# Altium schematic symbol library 10M16SAU324.SchLib: 1 symbol
Pins are listed as number, name and electrical type; pins without a type are passive.

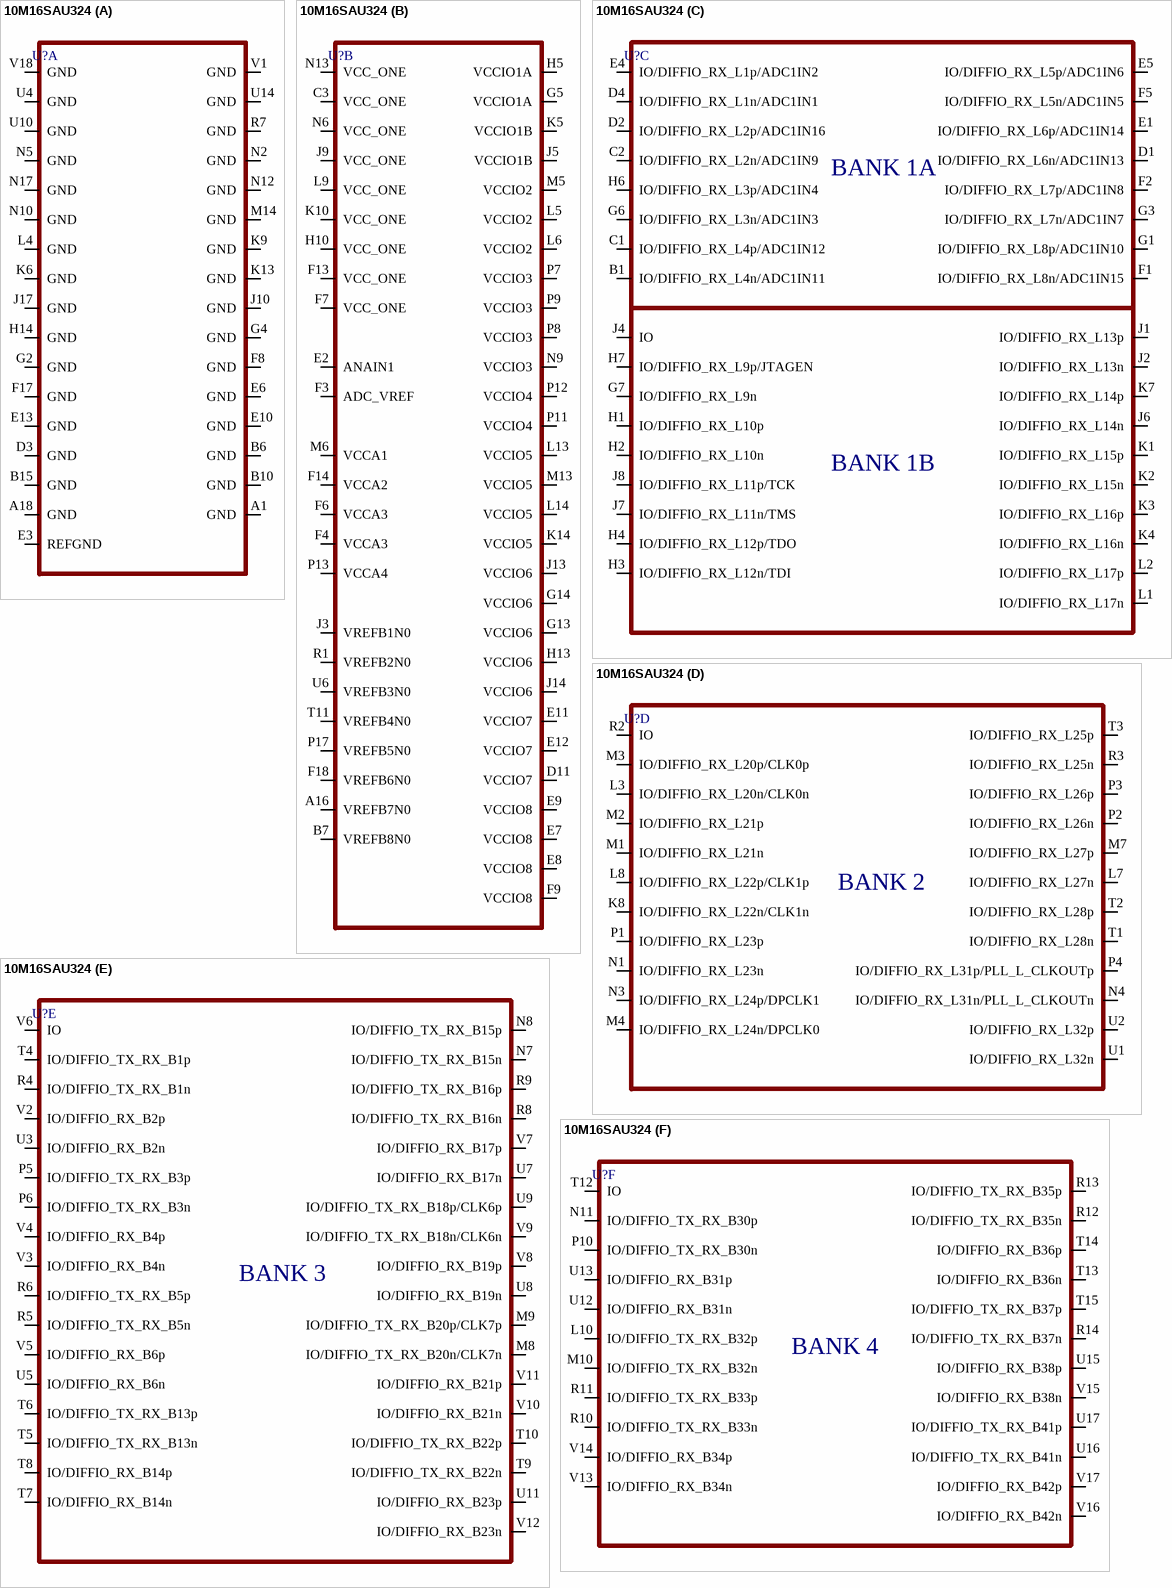
[diagram p0: symbol 10M16SAU324]

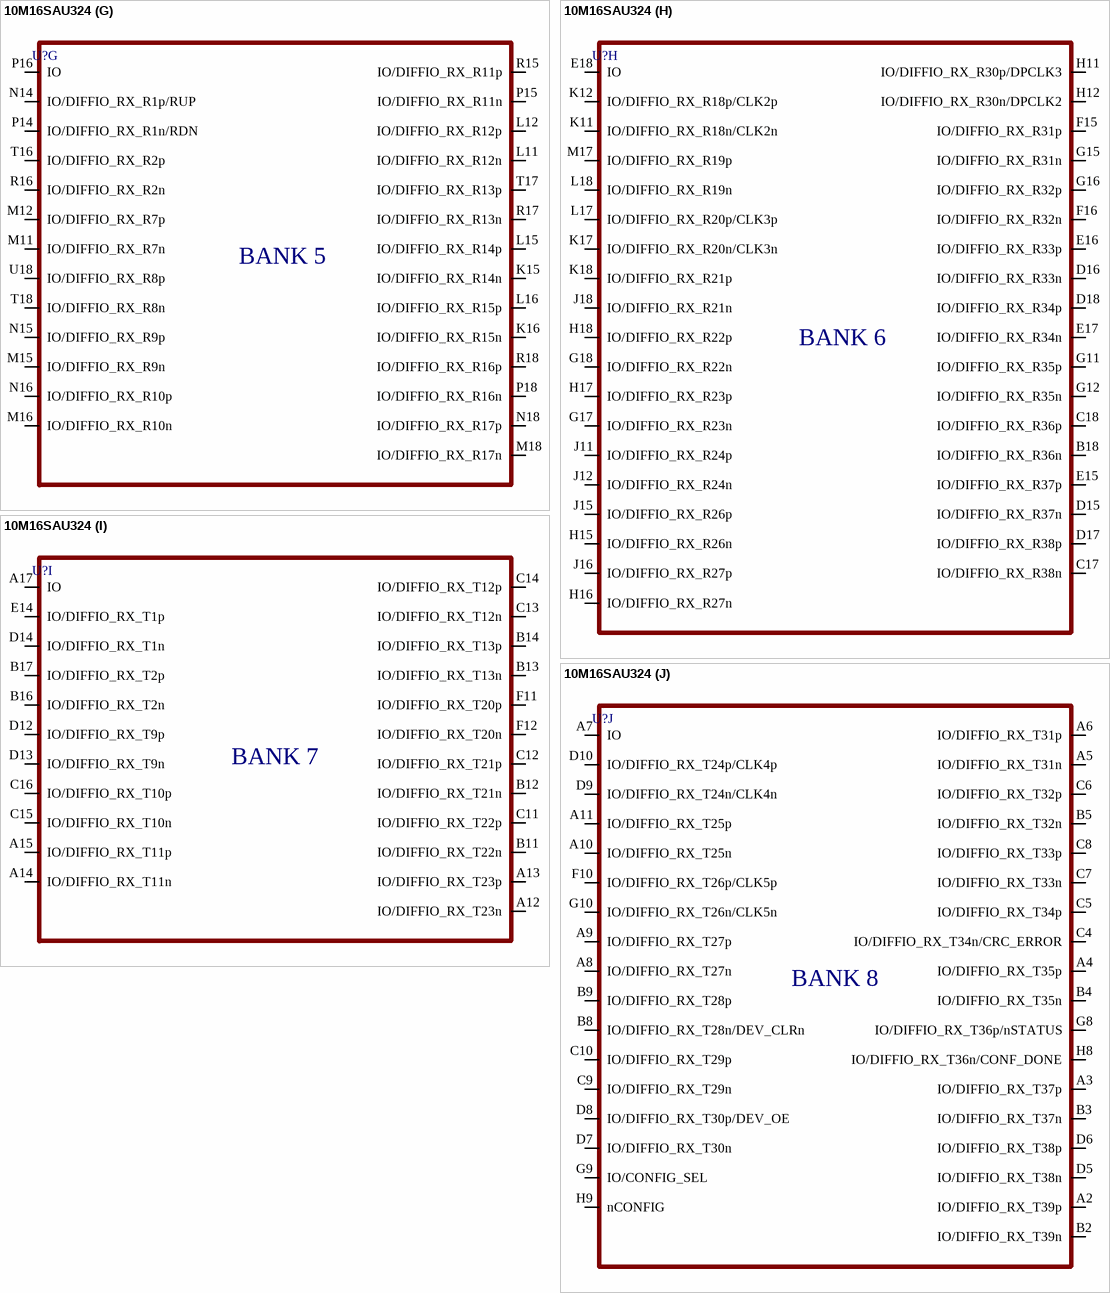
[diagram p1: symbol 10M16SAU324]

## 10M16SAU324
designator U?
part A pins: A1 GND, A18 GND, B6 GND, B10 GND, B15 GND, D3 GND, E3 REFGND, E6 GND, E10 GND, E13 GND, F8 GND, F17 GND, G2 GND, G4 GND, H14 GND, J10 GND, J17 GND, K6 GND, K9 GND, K13 GND, L4 GND, M14 GND, N2 GND, N5 GND, N10 GND, N12 GND, N17 GND, R7 GND, U4 GND, U10 GND, U14 GND, V1 GND, V18 GND
part B pins: A16 VREFB7N0, B7 VREFB8N0, C3 VCC_ONE, D11 VCCIO7, E2 ANAIN1, E7 VCCIO8, E8 VCCIO8, E9 VCCIO8, E11 VCCIO7, E12 VCCIO7, F3 ADC_VREF, F4 VCCA3, F6 VCCA3, F7 VCC_ONE, F9 VCCIO8, F13 VCC_ONE, F14 VCCA2, F18 VREFB6N0, G5 VCCIO1A, G13 VCCIO6, G14 VCCIO6, H5 VCCIO1A, H10 VCC_ONE, H13 VCCIO6, J3 VREFB1N0, J5 VCCIO1B, J9 VCC_ONE, J13 VCCIO6, J14 VCCIO6, K5 VCCIO1B, K10 VCC_ONE, K14 VCCIO5, L5 VCCIO2, L6 VCCIO2, L9 VCC_ONE, L13 VCCIO5, L14 VCCIO5, M5 VCCIO2, M6 VCCA1, M13 VCCIO5, N6 VCC_ONE, N9 VCCIO3, N13 VCC_ONE, P7 VCCIO3, P8 VCCIO3, P9 VCCIO3, P11 VCCIO4, P12 VCCIO4, P13 VCCA4, P17 VREFB5N0, R1 VREFB2N0, T11 VREFB4N0, U6 VREFB3N0
part C pins: B1 IO/DIFFIO_RX_L4n/ADC1IN11, C1 IO/DIFFIO_RX_L4p/ADC1IN12, C2 IO/DIFFIO_RX_L2n/ADC1IN9, D1 IO/DIFFIO_RX_L6n/ADC1IN13, D2 IO/DIFFIO_RX_L2p/ADC1IN16, D4 IO/DIFFIO_RX_L1n/ADC1IN1, E1 IO/DIFFIO_RX_L6p/ADC1IN14, E4 IO/DIFFIO_RX_L1p/ADC1IN2, E5 IO/DIFFIO_RX_L5p/ADC1IN6, F1 IO/DIFFIO_RX_L8n/ADC1IN15, F2 IO/DIFFIO_RX_L7p/ADC1IN8, F5 IO/DIFFIO_RX_L5n/ADC1IN5, G1 IO/DIFFIO_RX_L8p/ADC1IN10, G3 IO/DIFFIO_RX_L7n/ADC1IN7, G6 IO/DIFFIO_RX_L3n/ADC1IN3, G7 IO/DIFFIO_RX_L9n, H1 IO/DIFFIO_RX_L10p, H2 IO/DIFFIO_RX_L10n, H3 IO/DIFFIO_RX_L12n/TDI, H4 IO/DIFFIO_RX_L12p/TDO, H6 IO/DIFFIO_RX_L3p/ADC1IN4, H7 IO/DIFFIO_RX_L9p/JTAGEN, J1 IO/DIFFIO_RX_L13p, J2 IO/DIFFIO_RX_L13n, J4 IO, J6 IO/DIFFIO_RX_L14n, J7 IO/DIFFIO_RX_L11n/TMS, J8 IO/DIFFIO_RX_L11p/TCK, K1 IO/DIFFIO_RX_L15p, K2 IO/DIFFIO_RX_L15n, K3 IO/DIFFIO_RX_L16p, K4 IO/DIFFIO_RX_L16n, K7 IO/DIFFIO_RX_L14p, L1 IO/DIFFIO_RX_L17n, L2 IO/DIFFIO_RX_L17p
part D pins: K8 IO/DIFFIO_RX_L22n/CLK1n, L3 IO/DIFFIO_RX_L20n/CLK0n, L7 IO/DIFFIO_RX_L27n, L8 IO/DIFFIO_RX_L22p/CLK1p, M1 IO/DIFFIO_RX_L21n, M2 IO/DIFFIO_RX_L21p, M3 IO/DIFFIO_RX_L20p/CLK0p, M4 IO/DIFFIO_RX_L24n/DPCLK0, M7 IO/DIFFIO_RX_L27p, N1 IO/DIFFIO_RX_L23n, N3 IO/DIFFIO_RX_L24p/DPCLK1, N4 IO/DIFFIO_RX_L31n/PLL_L_CLKOUTn, P1 IO/DIFFIO_RX_L23p, P2 IO/DIFFIO_RX_L26n, P3 IO/DIFFIO_RX_L26p, P4 IO/DIFFIO_RX_L31p/PLL_L_CLKOUTp, R2 IO, R3 IO/DIFFIO_RX_L25n, T1 IO/DIFFIO_RX_L28n, T2 IO/DIFFIO_RX_L28p, T3 IO/DIFFIO_RX_L25p, U1 IO/DIFFIO_RX_L32n, U2 IO/DIFFIO_RX_L32p
part E pins: M8 IO/DIFFIO_TX_RX_B20n/CLK7n, M9 IO/DIFFIO_TX_RX_B20p/CLK7p, N7 IO/DIFFIO_TX_RX_B15n, N8 IO/DIFFIO_TX_RX_B15p, P5 IO/DIFFIO_TX_RX_B3p, P6 IO/DIFFIO_TX_RX_B3n, R4 IO/DIFFIO_TX_RX_B1n, R5 IO/DIFFIO_TX_RX_B5n, R6 IO/DIFFIO_TX_RX_B5p, R8 IO/DIFFIO_TX_RX_B16n, R9 IO/DIFFIO_TX_RX_B16p, T4 IO/DIFFIO_TX_RX_B1p, T5 IO/DIFFIO_TX_RX_B13n, T6 IO/DIFFIO_TX_RX_B13p, T7 IO/DIFFIO_RX_B14n, T8 IO/DIFFIO_RX_B14p, T9 IO/DIFFIO_TX_RX_B22n, T10 IO/DIFFIO_TX_RX_B22p, U3 IO/DIFFIO_RX_B2n, U5 IO/DIFFIO_RX_B6n, U7 IO/DIFFIO_RX_B17n, U8 IO/DIFFIO_RX_B19n, U9 IO/DIFFIO_TX_RX_B18p/CLK6p, U11 IO/DIFFIO_RX_B23p, V2 IO/DIFFIO_RX_B2p, V3 IO/DIFFIO_RX_B4n, V4 IO/DIFFIO_RX_B4p, V5 IO/DIFFIO_RX_B6p, V6 IO, V7 IO/DIFFIO_RX_B17p, V8 IO/DIFFIO_RX_B19p, V9 IO/DIFFIO_TX_RX_B18n/CLK6n, V10 IO/DIFFIO_RX_B21n, V11 IO/DIFFIO_RX_B21p, V12 IO/DIFFIO_RX_B23n
part F pins: L10 IO/DIFFIO_TX_RX_B32p, M10 IO/DIFFIO_TX_RX_B32n, N11 IO/DIFFIO_TX_RX_B30p, P10 IO/DIFFIO_TX_RX_B30n, R10 IO/DIFFIO_TX_RX_B33n, R11 IO/DIFFIO_TX_RX_B33p, R12 IO/DIFFIO_TX_RX_B35n, R13 IO/DIFFIO_TX_RX_B35p, R14 IO/DIFFIO_TX_RX_B37n, T12 IO, T13 IO/DIFFIO_RX_B36n, T14 IO/DIFFIO_RX_B36p, T15 IO/DIFFIO_TX_RX_B37p, U12 IO/DIFFIO_RX_B31n, U13 IO/DIFFIO_RX_B31p, U15 IO/DIFFIO_RX_B38p, U16 IO/DIFFIO_TX_RX_B41n, U17 IO/DIFFIO_TX_RX_B41p, V13 IO/DIFFIO_RX_B34n, V14 IO/DIFFIO_RX_B34p, V15 IO/DIFFIO_RX_B38n, V16 IO/DIFFIO_RX_B42n, V17 IO/DIFFIO_RX_B42p
part G pins: K15 IO/DIFFIO_RX_R14n, K16 IO/DIFFIO_RX_R15n, L11 IO/DIFFIO_RX_R12n, L12 IO/DIFFIO_RX_R12p, L15 IO/DIFFIO_RX_R14p, L16 IO/DIFFIO_RX_R15p, M11 IO/DIFFIO_RX_R7n, M12 IO/DIFFIO_RX_R7p, M15 IO/DIFFIO_RX_R9n, M16 IO/DIFFIO_RX_R10n, M18 IO/DIFFIO_RX_R17n, N14 IO/DIFFIO_RX_R1p/RUP, N15 IO/DIFFIO_RX_R9p, N16 IO/DIFFIO_RX_R10p, N18 IO/DIFFIO_RX_R17p, P14 IO/DIFFIO_RX_R1n/RDN, P15 IO/DIFFIO_RX_R11n, P16 IO, P18 IO/DIFFIO_RX_R16n, R15 IO/DIFFIO_RX_R11p, R16 IO/DIFFIO_RX_R2n, R17 IO/DIFFIO_RX_R13n, R18 IO/DIFFIO_RX_R16p, T16 IO/DIFFIO_RX_R2p, T17 IO/DIFFIO_RX_R13p, T18 IO/DIFFIO_RX_R8n, U18 IO/DIFFIO_RX_R8p
part H pins: B18 IO/DIFFIO_RX_R36n, C17 IO/DIFFIO_RX_R38n, C18 IO/DIFFIO_RX_R36p, D15 IO/DIFFIO_RX_R37n, D16 IO/DIFFIO_RX_R33n, D17 IO/DIFFIO_RX_R38p, D18 IO/DIFFIO_RX_R34p, E15 IO/DIFFIO_RX_R37p, E16 IO/DIFFIO_RX_R33p, E17 IO/DIFFIO_RX_R34n, E18 IO, F15 IO/DIFFIO_RX_R31p, F16 IO/DIFFIO_RX_R32n, G11 IO/DIFFIO_RX_R35p, G12 IO/DIFFIO_RX_R35n, G15 IO/DIFFIO_RX_R31n, G16 IO/DIFFIO_RX_R32p, G17 IO/DIFFIO_RX_R23n, G18 IO/DIFFIO_RX_R22n, H11 IO/DIFFIO_RX_R30p/DPCLK3, H12 IO/DIFFIO_RX_R30n/DPCLK2, H15 IO/DIFFIO_RX_R26n, H16 IO/DIFFIO_RX_R27n, H17 IO/DIFFIO_RX_R23p, H18 IO/DIFFIO_RX_R22p, J11 IO/DIFFIO_RX_R24p, J12 IO/DIFFIO_RX_R24n, J15 IO/DIFFIO_RX_R26p, J16 IO/DIFFIO_RX_R27p, J18 IO/DIFFIO_RX_R21n, K11 IO/DIFFIO_RX_R18n/CLK2n, K12 IO/DIFFIO_RX_R18p/CLK2p, K17 IO/DIFFIO_RX_R20n/CLK3n, K18 IO/DIFFIO_RX_R21p, L17 IO/DIFFIO_RX_R20p/CLK3p, L18 IO/DIFFIO_RX_R19n, M17 IO/DIFFIO_RX_R19p
part I pins: A12 IO/DIFFIO_RX_T23n, A13 IO/DIFFIO_RX_T23p, A14 IO/DIFFIO_RX_T11n, A15 IO/DIFFIO_RX_T11p, A17 IO, B11 IO/DIFFIO_RX_T22n, B12 IO/DIFFIO_RX_T21n, B13 IO/DIFFIO_RX_T13n, B14 IO/DIFFIO_RX_T13p, B16 IO/DIFFIO_RX_T2n, B17 IO/DIFFIO_RX_T2p, C11 IO/DIFFIO_RX_T22p, C12 IO/DIFFIO_RX_T21p, C13 IO/DIFFIO_RX_T12n, C14 IO/DIFFIO_RX_T12p, C15 IO/DIFFIO_RX_T10n, C16 IO/DIFFIO_RX_T10p, D12 IO/DIFFIO_RX_T9p, D13 IO/DIFFIO_RX_T9n, D14 IO/DIFFIO_RX_T1n, E14 IO/DIFFIO_RX_T1p, F11 IO/DIFFIO_RX_T20p, F12 IO/DIFFIO_RX_T20n
part J pins: A2 IO/DIFFIO_RX_T39p, A3 IO/DIFFIO_RX_T37p, A4 IO/DIFFIO_RX_T35p, A5 IO/DIFFIO_RX_T31n, A6 IO/DIFFIO_RX_T31p, A7 IO, A8 IO/DIFFIO_RX_T27n, A9 IO/DIFFIO_RX_T27p, A10 IO/DIFFIO_RX_T25n, A11 IO/DIFFIO_RX_T25p, B2 IO/DIFFIO_RX_T39n, B3 IO/DIFFIO_RX_T37n, B4 IO/DIFFIO_RX_T35n, B5 IO/DIFFIO_RX_T32n, B8 IO/DIFFIO_RX_T28n/DEV_CLRn, B9 IO/DIFFIO_RX_T28p, C4 IO/DIFFIO_RX_T34n/CRC_ERROR, C5 IO/DIFFIO_RX_T34p, C6 IO/DIFFIO_RX_T32p, C7 IO/DIFFIO_RX_T33n, C8 IO/DIFFIO_RX_T33p, C9 IO/DIFFIO_RX_T29n, C10 IO/DIFFIO_RX_T29p, D5 IO/DIFFIO_RX_T38n, D6 IO/DIFFIO_RX_T38p, D7 IO/DIFFIO_RX_T30n, D8 IO/DIFFIO_RX_T30p/DEV_OE, D9 IO/DIFFIO_RX_T24n/CLK4n, D10 IO/DIFFIO_RX_T24p/CLK4p, F10 IO/DIFFIO_RX_T26p/CLK5p, G8 IO/DIFFIO_RX_T36p/nSTATUS, G9 IO/CONFIG_SEL, G10 IO/DIFFIO_RX_T26n/CLK5n, H8 IO/DIFFIO_RX_T36n/CONF_DONE, H9 nCONFIG
part C text: BANK 1A; BANK 1B
part D text: BANK 2
part E text: BANK 3
part F text: BANK 4
part G text: BANK 5
part H text: BANK 6
part I text: BANK 7
part J text: BANK 8